# Altium schematic symbol library MIC584X_18P.SchLib: 1 symbol
Pins are listed as number, name and electrical type; pins without a type are passive.

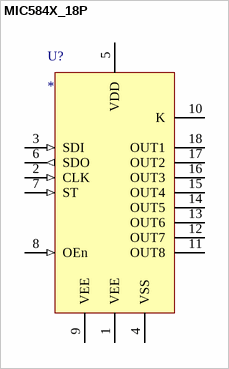
[diagram p0: symbol MIC584X_18P]

## MIC584X_18P
designator U?
8-Bit Serial-Input Latched Drivers
pins: 1 VEE (power), 2 CLK (in), 3 SDI (in), 4 VSS (power), 5 VDD (power), 6 SDO (out), 7 ST (in), 8 OEn (in), 9 VEE (power), 10 K (power), 11 OUT8 (oc), 12 OUT7 (oc), 13 OUT6 (oc), 14 OUT5 (oc), 15 OUT4 (oc), 16 OUT3 (oc), 17 OUT2 (oc), 18 OUT1 (oc)